# EAGLE library part LED5050 (library diode)
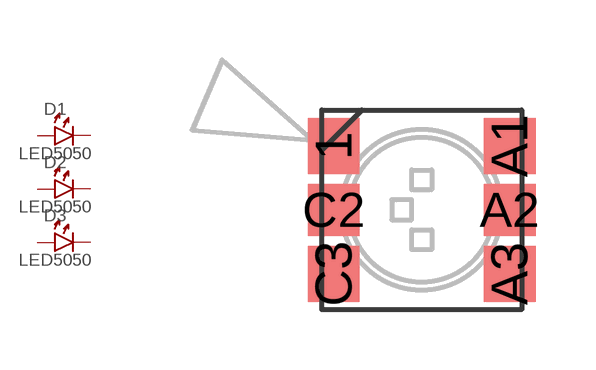
[diagram p0: symbol with the pads of LED5050; footprint LED5050]

Designator prefix D; gates 1=DIODE-LED 2=DIODE-LED 3=DIODE-LED

## LED5050  [LED5050]
1  1:K
A1  1:A
A2  2:A
A3  3:A
C2  2:K
C3  3:K

## Footprint LED5050 (pad centres in mm)
smd 1.3 x 1.4: 1 -2.2,1.6; A1 2.2,1.6; A3 2.2,-1.6; C3 -2.2,-1.6
smd 1.3 x 1.3: A2 2.2,0; C2 -2.2,0